# EAGLE library part ADS1112 (library kamiki)
16bit 4ch serial ADC 16-Bit Analog-to-Digital Converter with Input Multiplexer and Onboard Reference
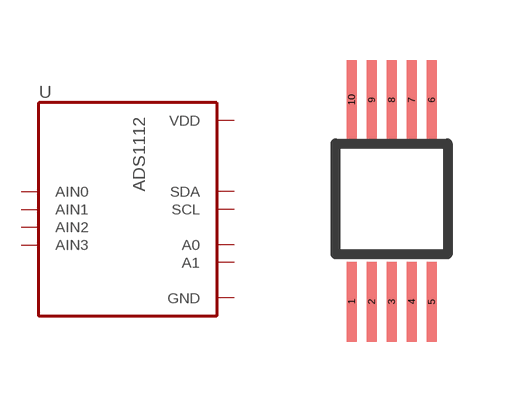
[diagram p7: symbol with the pads of MSOP10; footprint MSOP10]

Designator prefix -

## ADS1112  [MSOP10]
1  AIN0  in
2  AIN1  in
3  GND  pwr
4  AIN2  in
5  AIN3  in
6  VDD  pwr
7  SDA
8  SCL
9  A0  in
10  A1  in

## Footprint MSOP10 (pad centres in mm)
Micro Small Outline Package
smd 0.25 x 2: 1 -1,-2.525; 2 -0.5,-2.525; 3 0,-2.525; 4 0.5,-2.525; 5 1,-2.525; 6 1,2.525; 7 0.5,2.525; 8 0,2.525; 9 -0.5,2.525; 10 -1,2.525